# EAGLE library part DMN2019UTS (library Semiconductors > Discrete Semiconductors > Transistors > MOSFETs)
20V N-CHANNEL ENHANCEMENT MODE MOSFET
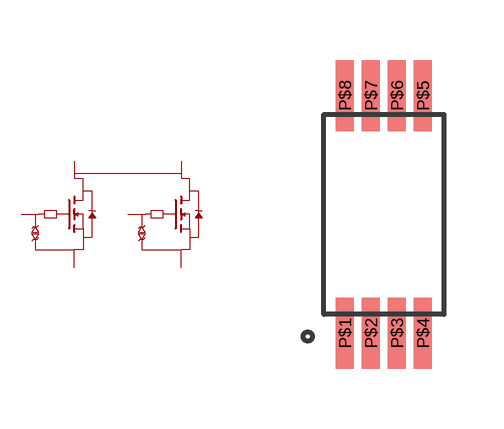
[diagram p0: symbol with the pads of TSSOP-8; footprint TSSOP-8]

Designator prefix Q

## DMN2019UTS  [TSSOP-8]
P$1  D1
P$2  S1
P$3  S1
P$4  G1
P$5  G2
P$6  S2
P$7  S2
P$8  D2

## Footprint TSSOP-8 (pad centres in mm)
smd 0.45 x 1.78: P$1 -0.975,-2.97; P$2 -0.325,-2.97; P$3 0.325,-2.97; P$4 0.975,-2.97; P$5 0.975,2.97; P$6 0.325,2.97; P$7 -0.325,2.97; P$8 -0.975,2.97